# Altium footprint library HZ ChMic4501_1013.PcbLib: 52 footprints (part 1 of 4)
Each footprint in its own frame and in the unit in brackets; x right, y up, seen from the top. Pads: shape width x height; smd on the part's side, far side on the other; paste and mask are expansions set on the pad; w line width, h text height; cw(c..) or ccw(c..) is an arc to the next point about the centre after c.
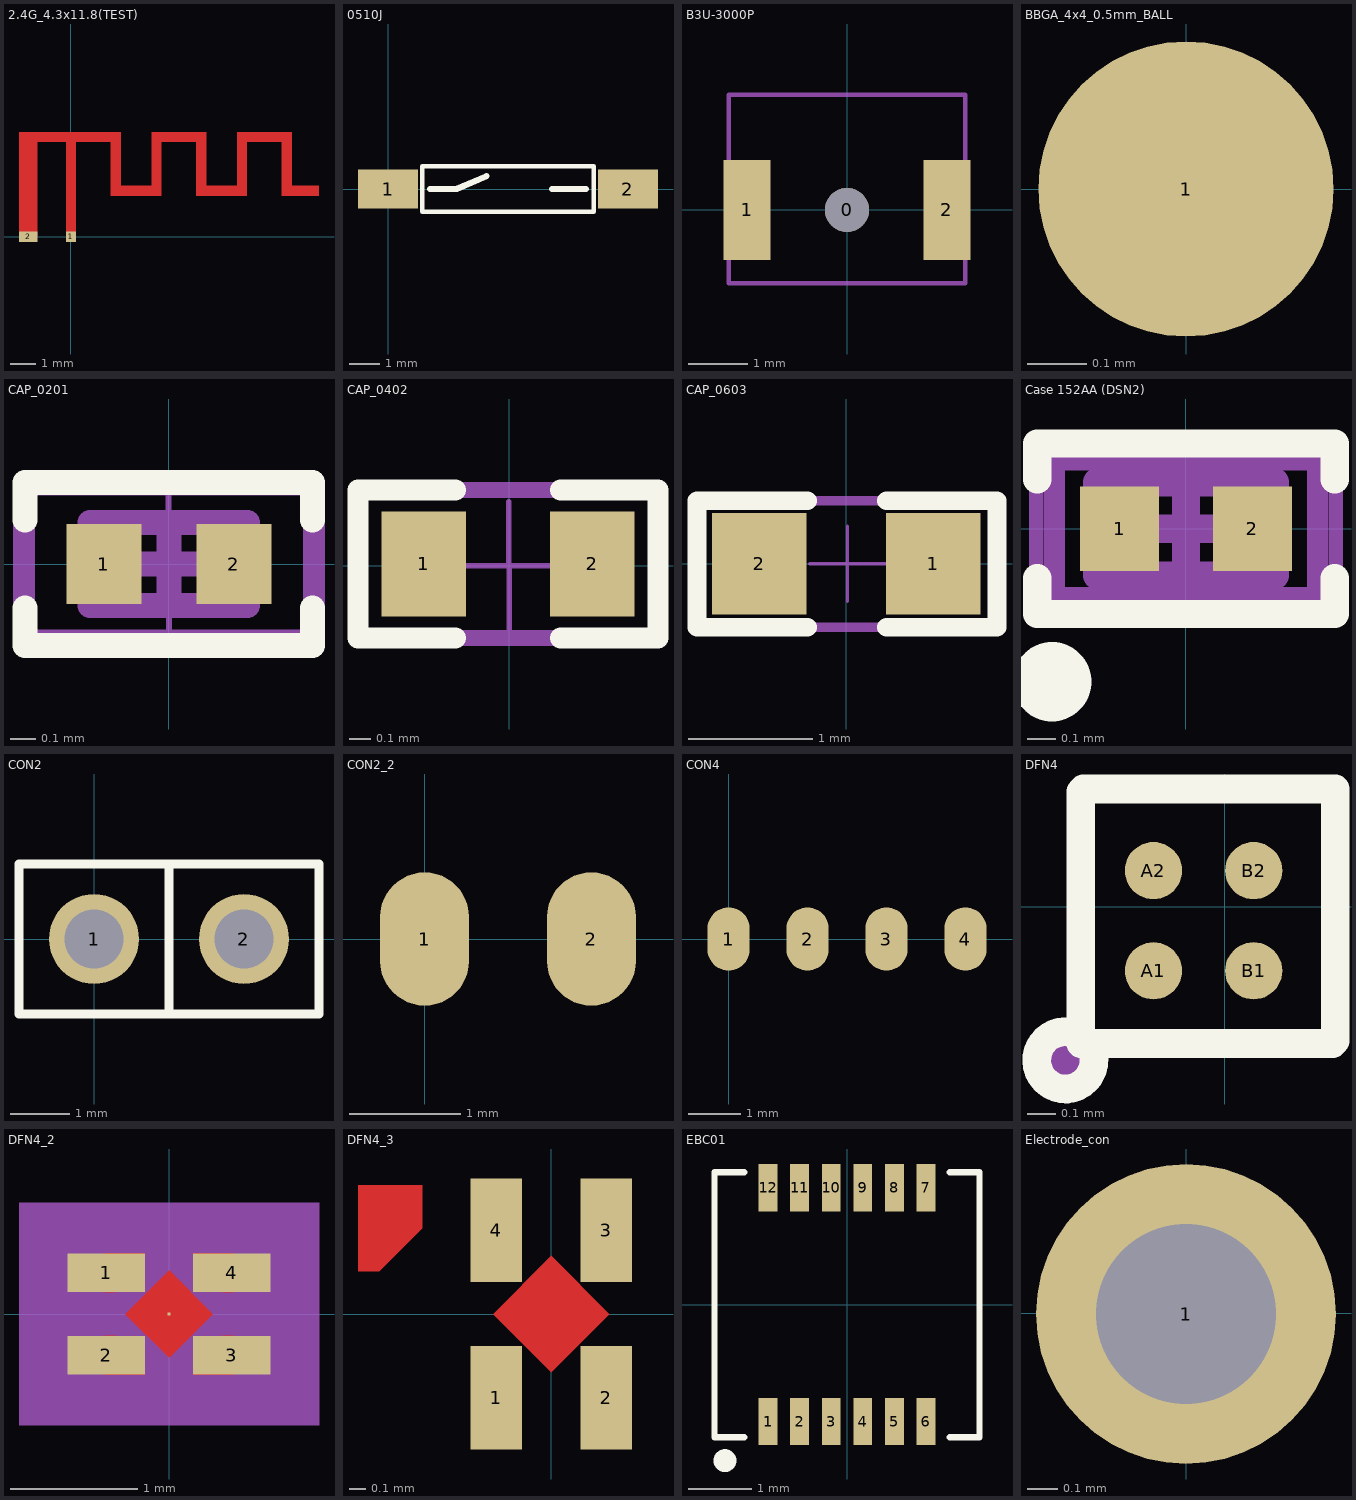
[diagram p0: the footprints below, top view; thin cyan lines are the x and y axes]

## 2.4G_4.3x11.8(TEST) [mm]
height 1
pads (2):
  rect 0.4x0.4 smd paste-2 mask+0.102: 1(0,0)
  rect 0.72x0.4 smd paste-2 mask+0.102: 2(-1.68,0)
Top Layer:
  rectangle: 8.28,1.608 9.751,2.008
  rectangle: 3.16,3.72 5.32,4.12
  rectangle: 3.16,1.608 3.56,4.12
  rectangle: 1.56,1.608 3.56,2.008
  rectangle: -0.2,0 0.2,3.92
  rectangle: -2.04,3.72 1.96,4.12
  rectangle: -2.04,0 -1.32,3.795
  rectangle: 1.56,1.608 1.96,4.12
  rectangle: 4.92,1.608 5.32,4.12
  rectangle: 4.92,1.608 6.92,2.008
  rectangle: 6.52,1.608 6.92,4.12
  rectangle: 6.52,3.72 8.68,4.12
  rectangle: 8.28,1.608 8.68,4.12

## 0510J [mm]
pads (2):
  rect 2x1.3 smd: 1(0,0) 2(8,0)
Top Overlay:
  lines w0.15: 1.143,-0.762 1.143,0.762 6.858,0.762 6.858,-0.762 1.143,-0.762
  lines w0.2: 1.397,0 2.286,0 3.282,0.427 ; 5.461,0 6.604,0

## B3U-3000P [mm]
pads (3):
  round 0.75 hole 0.75 unplated paste-0.254 mask-0.254: 0(0,0)
  rect 0.8x1.7 smd: 1(-1.7,0) 2(1.7,0)
Top Mechanical 20/Mechanical 21 (Mech20):
  lines w0.076: -2.007,-1.245 -2.007,1.956 2.007,1.956 2.007,-1.245 -2.007,-1.245
3D body "Reset Switch-b3u_B3U-3000P(M)-B.step": height 1.2, standoff -0.5, extent -2,-1.25 2,1.95

## BBGA_4x4_0.5mm_BALL [mm]
pads (1):
  round 0.5 smd: 1(0,0)

## CAP_0201 [mm] "Chip Capacitor, 2-Leads, Body 0.60x0.30mm, IPC High Density"
height 0.33
pads (2):
  rect 0.3x0.32 smd: 1(-0.26,0) 2(0.26,0)
Top Overlay:
  lines w0.1: -0.575,-0.175 -0.575,-0.325 0.575,-0.325 0.575,-0.175 ; -0.575,0.175 -0.575,0.325 0.575,0.325 0.575,0.175
Mechanical 7:
  lines w0.025: -0.307,0 -0.002,0 ; -0.002,0.305 -0.002,0 ; 0,-0.303 0,0.002 ; 0.303,0 -0.002,0
Mechanical 13:
  lines w0.1: -0.315,-0.165 0.315,-0.165 0.315,0.165 -0.315,0.165 -0.315,-0.165
Mechanical 15:
  lines w0.05: -0.6,-0.3 0.6,-0.3 0.6,0.3 -0.6,0.3 -0.6,-0.3
  lines w0.1: -0.165,0 0.165,0 ; 0,-0.165 0,0.165
Top Mechanical 20/Mechanical 21 (Mech20):
  lines w0.076: -0.575,-0.3 -0.575,0.325 0.575,0.325 0.575,-0.3 -0.575,-0.3
3D body "CAP 0201.STEP": height 0.3, standoff 0, extent -0.3,-0.15 0.3,0.15

## CAP_0402 [mm]
pads (2):
  rect 0.4x0.5 smd: 1(-0.405,0.009) 2(0.395,0.009)
Top Overlay:
  lines w0.1: -0.255,-0.341 -0.717,-0.341 -0.717,0.359 -0.255,0.359 ; 0.245,-0.341 0.706,-0.341 0.706,0.359 0.245,0.359
Mechanical 7:
  lines w0.025: -0.307,0 -0.002,0 ; -0.002,0.305 -0.002,0 ; 0,-0.303 0,0.002 ; 0.303,0 -0.002,0
Top Mechanical 20/Mechanical 21 (Mech20):
  lines w0.076: -0.717,-0.341 -0.717,0.359 0.706,0.359 0.706,-0.341 -0.717,-0.341
3D body "82307050029.stp": height 0.52, standoff 0.02, extent -0.5,-0.25 0.5,0.25

## CAP_0603 [mil]
pads (2):
  rect 30x32 smd: 1(27.56,0) 2(-27.56,0)
Top Overlay:
  lines w5.91: -12.25,-20.08 -47.25,-20.08 -47.25,19.92 -12.25,19.92 ; 12.75,-20.08 47.75,-20.08 47.75,19.92 12.75,19.92
Mechanical 7:
  lines w1: -11.63,0 0.37,0 ; 0.37,12 0.37,0 ; 0.46,-11.93 0.46,0.07 ; 12.37,0 0.37,0
Top Mechanical 20/Mechanical 21 (Mech20):
  lines w3: -47.25,19.92 -47.25,19.92 ; -47.25,19.92 -47.25,-20.08 47.75,-20.08 47.75,19.92 -47.25,19.92
3D body "Ceramic_Capacitor_0603_h32mil.step": height 31.89, standoff 0.39, extent -31.03,-15.62 31.96,15.88

## Case 152AA (DSN2) [mm] "Diode DSN2"
height 0.33
pads (2):
  rect 0.28x0.3 smd: 1(-0.235,0) 2(0.235,0)
Top Overlay:
  circle w0.254: c-0.475,-0.541 r0.013
  lines w0.1: -0.526,-0.175 -0.526,-0.301 0.526,-0.301 0.526,-0.175 ; -0.526,0.175 -0.526,0.301 0.526,0.301 0.526,0.175
Mechanical 7:
  lines w0.025: -0.307,0 -0.002,0 ; -0.002,0.305 -0.002,0 ; 0,-0.303 0,0.002 ; 0.303,0 -0.002,0
Mechanical 13:
  lines w0.1: -0.315,-0.165 0.315,-0.165 0.315,0.165 -0.315,0.165 -0.315,-0.165
Mechanical 15:
  lines w0.05: -0.531,-0.3 0.531,-0.3 0.531,0.3 -0.531,0.3 -0.531,-0.3
  lines w0.1: -0.165,0 0.165,0 ; 0,-0.165 0,0.165
Top Mechanical 20/Mechanical 21 (Mech20):
  lines w0.076: 0.465,-0.245 -0.466,-0.245 -0.466,0.245 0.465,0.245 ; 0.466,-0.245 0.466,0.245
3D body "NSR02F30.STEP": height 0.28, standoff 0, extent -0.31,-0.151 0.29,0.149

## CON2 [mil]
height 60.71
pads (2):
  round 60 hole 39.37: 1(0,0) 2(100,0)
Top Overlay:
  lines w5.91: 50,-50 50,50 ; -50,-50 -50,50 150,50 150,-50 -50,-50
Top Mechanical 20/Mechanical 21 (Mech20):
  lines w3: 150,-50 -50,-50 -50,50 150,50 150,-50 ; 150,-50 150,-50

## CON2_2 [mm]
height 1.542
pads (2):
  oval 0.8x1.2 smd: 1(0,0) 2(1.5,0)

## CON4 [mm]
height 1.542
pads (4):
  oval 0.8x1.2 smd: 1(0,0) 2(1.5,0) 3(3,0) 4(4.5,0)

## DFN4 [mm]
pads (4):
  round 0.2 smd: A1(-0.25,-0.223) A2(-0.25,0.127) B1(0.1,-0.223) B2(0.1,0.127)
Top Overlay:
  lines w0.1: -0.504,0.403 -0.504,-0.477 0.376,-0.477 ; -0.495,0.412 0.385,0.412 0.385,-0.468 ; -0.484,-0.468 ccw(c-0.558,-0.536) -0.484,-0.468
Top Mechanical 20/Mechanical 21 (Mech20):
  circle w0.254: c-0.558,-0.537 r0.02
  lines w0.076: -0.469,-0.468 -0.495,-0.443 -0.495,0.412 0.385,0.412 0.385,-0.468 -0.468,-0.468

## DFN4_2 [mil]
pads (5):
  rect 24x12 smd paste+0 mask+0: 1(-19.5,12.8) 2(-19.5,-12.8) 3(19.5,-12.8) 4(19.5,12.8)
  rect 1x1 smd paste+0 mask+0: 5(0,0)
Top Layer:
  region: -7.5,18.8 -20,18.8 -20,6.8 -16.5,6.8 -7.5,15.8
  region: -16.5,-6.8 -20,-6.8 -20,-18.8 -7.5,-18.8 -7.5,-15.8
  region: 16.5,-6.8 20,-6.8 20,-18.8 7.5,-18.8 7.5,-15.8
  region: 7.5,18.8 20,18.8 20,6.8 16.5,6.8 7.5,15.8
  region: 13.5,0 0,13.5 -13.5,0 0,-13.5
Top Paste:
  region: -7.5,18.8 -31.5,18.8 -31.5,6.8 -16.5,6.8 -7.5,15.8
  region: -16.5,-6.8 -31.5,-6.8 -31.5,-18.8 -7.5,-18.8 -7.5,-15.8
  region: 16.5,-6.8 31.5,-6.8 31.5,-18.8 7.5,-18.8 7.5,-15.8
  region: 7.5,18.8 31.5,18.8 31.5,6.8 16.5,6.8 7.5,15.8
  region: 13.5,0 0,13.5 -13.5,0 0,-13.5
Top Solder:
  region: -7.5,18.8 -31.5,18.8 -31.5,6.8 -16.5,6.8 -7.5,15.8
  region: -16.5,-6.8 -31.5,-6.8 -31.5,-18.8 -7.5,-18.8 -7.5,-15.8
  region: 16.5,-6.8 31.5,-6.8 31.5,-18.8 7.5,-18.8 7.5,-15.8
  region: 7.5,18.8 31.5,18.8 31.5,6.8 16.5,6.8 7.5,15.8
  region: 13.5,0 0,13.5 -13.5,0 0,-13.5
Mechanical 5:
  region: 46.5,-34.5 -46.5,-34.5 -46.5,34.5 46.5,34.5
Mechanical 13:
  lines w1: -19.5,-19.5 19.5,-19.5 19.5,19.5 -19.5,19.5 -19.5,-19.5
Mechanical 15:
  region: -29.5,-27.59 -41.5,-27.59 -41.5,27.59 -29.5,27.59 -29.5,29.5 29.5,29.5 29.5,27.59 41.5,27.59 41.5,-27.59 29.5,-27.59 29.5,-29.5 -29.5,-29.5
  lines w6: -41.5,-27.59 -41.5,27.59 -29.5,27.59 -29.5,29.5 29.5,29.5 29.5,27.59 41.5,27.59 41.5,-27.59 29.5,-27.59 29.5,-29.5 -29.5,-29.5 -29.5,-27.59 -41.5,-27.59

## DFN4_3 [mil]
pads (4):
  rect 12x24 smd paste+0 mask+0: 1(-12.8,-19.5) 2(12.8,-19.5) 3(12.8,19.5) 4(-12.8,19.5)
Top Layer:
  region: 0,13.5 -13.5,0 0,-13.5 13.5,0
  region: -45,10 -40,10 -30,20 -30,30 -45,30

## EBC01 [mm]
pads (12):
  rect 0.3x0.75 smd: 1(-1.25,-1.854) 2(-0.75,-1.854) 3(-0.25,-1.854) 4(0.25,-1.854) 5(0.75,-1.854) 6(1.25,-1.854) 7(1.25,1.854) 8(0.75,1.854) 9(0.25,1.854) 10(-0.25,1.854) 11(-0.75,1.854) 12(-1.25,1.854)
Top Overlay:
  circle w0.254: c-1.935,-2.474 r0.054
  lines w0.102: -1.631,-2.102 -2.102,-2.102 -2.102,0 -2.102,2.102 -1.631,2.102 ; 1.631,-2.102 2.102,-2.102 2.102,0 2.102,2.102 1.631,2.102
3D body "EBC01_3.STEP": height 1.12, standoff 0, extent -2.002,-2 1.998,2

## Electrode_con [mm]
pads (1):
  round 1 hole 0.6: 1(0,-0.003)